# Altium footprint library Current Sense.PcbLib: 11 footprints
Each footprint in its own frame and in the unit in brackets; x right, y up, seen from the top. Pads: shape width x height; smd on the part's side, far side on the other; paste and mask are expansions set on the pad; w line width, h text height; cw(c..) or ccw(c..) is an arc to the next point about the centre after c.
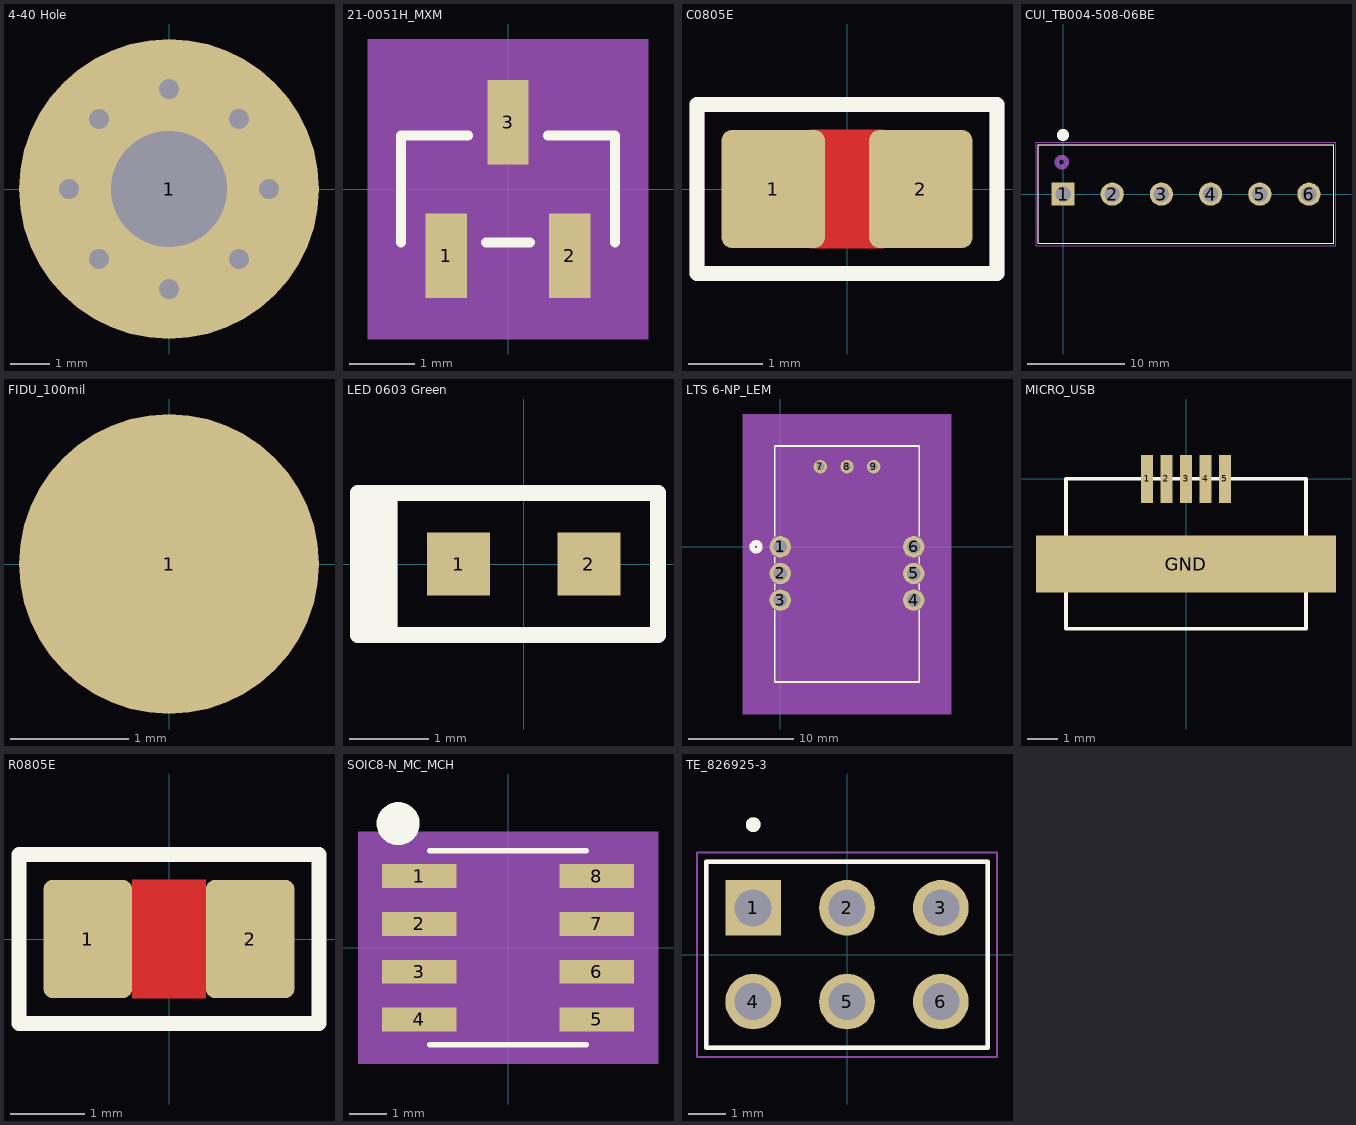
[diagram p0: the footprints below, top view; thin cyan lines are the x and y axes]

## 4-40 Hole [mil]
pads (1):
  round 300 hole 116: 1(0,0)
via 70,-70 diameter 50 hole 20
via -70,-70 diameter 50 hole 20
via 70,70 diameter 50 hole 20
via -70,70 diameter 50 hole 20
via -100,0 diameter 50 hole 20
via 0,-100 diameter 50 hole 20
via 100,0 diameter 50 hole 20
via 0,100 diameter 50 hole 20

## 21-0051H_MXM [mil]
pads (3):
  rect 25x51 smd paste+0 mask+0: 1(-37.4,-40.5) 2(37.4,-40.5) 3(0,40.5)
Top Overlay:
  lines w6: -65,-32.5 -65,32.5 -24.1,32.5 ; -13.3,-32.5 13.3,-32.5 ; 24.1,32.5 65,32.5 65,-32.5
Mechanical 5:
  region: -85,91 85,91 85,-91 -85,-91
Mechanical 13:
  circle w0: c-50,-17.5 r5
  lines w1: -60,-27.5 60,-27.5 60,27.5 -60,27.5 -60,-27.5 ; -47.4,-52 -47.4,-27.5 -27.4,-27.5 -27.4,-52 -47.4,-52 ; -10,27.5 10,27.5 10,52 -10,52 -10,27.5 ; 27.4,-52 27.4,-27.5 47.4,-27.5 47.4,-52 27.4,-52
  text "'.Designator'" at -100,106.66 h50
Mechanical 15:
  region: -70,-37.5 -70,37.5 -21,37.5 -21,76 21,76 21,37.5 70,37.5 70,-37.5 58.4,-37.5 58.4,-76 -58.4,-76 -58.4,-37.5
  region: 60,-27.5 -60,-27.5 -60,27.5 60,27.5
  lines w6: -70,-37.5 -70,37.5 -21,37.5 -21,76 21,76 21,37.5 70,37.5 70,-37.5 58.4,-37.5 58.4,-76 -58.4,-76 -58.4,-37.5 -70,-37.5
3D body "21-0051H_MXM.step": height 44.09, standoff 0, extent -60,-52.01 60,52.01

## C0805E [mm] "CHIP Capacitor, 2.0X1.3mm, 0805, EXPANDED PAD"
pads (2):
  rrect20% 1.4x1.6 smd mask+0.1: 1(-1,0) 2(1,0)
Top Layer:
  pour cut-out: -0.5,0.8 0.5,0.8 0.5,-0.8 -0.5,-0.8
Top Overlay:
  lines w0.2: -2.032,-1.143 2.032,-1.143 2.032,1.143 -2.032,1.143 -2.032,-1.143
Mechanical 1:
  lines w0.2: -2.032,-1.143 2.032,-1.143 2.032,1.143 -2.032,1.143 -2.032,-1.143
  text "'.Designator'" at -1.646,1.677 h1.27
3D body "User Library-CAPC2013X10.step": height 1, standoff 0, extent -1,-0.625 1,0.625

## CUI_TB004-508-06BE [mm]
pads (6):
  rect 2.4x2.4 / inner round 2.4 / far side rect 2.4x2.4 hole 1.6: 1(0,0)
  round 2.4 hole 1.6: 2(5.08,0) 3(10.16,0) 4(15.24,0) 5(20.32,0) 6(25.4,0)
Top Overlay:
  circle w0.635: c0,6.1 r0.305
  lines w0.127: -2.54,-5.1 27.94,-5.1 27.94,5.1 -2.54,5.1 -2.54,-5.1
Mechanical 13:
  circle w0.508: c-0.127,3.302 r0.508
  lines w0.127: -2.54,-5.1 27.94,-5.1 27.94,5.1 -2.54,5.1 -2.54,-5.1
  text "'.Designator'" at 3.937,-0.635 h1.52
Mechanical 15:
  lines w0.05: -2.79,-5.35 -2.79,5.35 28.19,5.35 28.19,-5.35 -2.79,-5.35

## FIDU_100mil [mil]
pads (1):
  round 100 smd paste-500 mask-500: 1(0,0)

## LED 0603 Green [mm]
pads (2):
  rect 0.8x0.8 smd: 1(-0.825,0) 2(0.825,0)
Top Overlay:
  rectangle: -2.1,-0.9 -1.6,0.9
  lines w0.2: -2.1,-0.9 1.7,-0.9 1.7,0.9 -2.1,0.9 -2.1,-0.9
Mechanical 29:
  rectangle: -2.1,-0.9 -1.6,0.9
  lines w0.2: -2.1,-0.9 -2.1,0.9 1.7,0.9 1.7,-0.9 -2.1,-0.9
  text "'.Designator'" at -1.4,-0.367 h0.7
3D body "LED 0603.STEP": height 1.1, standoff 0, extent -0.8,-0.4 0.8,0.4

## LTS 6-NP_LEM [mil]
pads (9):
  round 80 hole 52 mask+0: 1(0,0) 2(0,-100) 3(0,-200) 4(500,-200) 5(500,-100) 6(500,0)
  round 50 hole 30: 7(150,300) 8(250,300) 9(350,300)
Top Overlay:
  circle w20: c-91,0 r15
  lines w6: -21,-238.78 -21,-506.56 521,-506.56 521,-238.78 ; -21,-161.22 -21,-138.78 ; -21,-61.22 -21,-38.78 ; -21,38.78 -21,377.44 521,377.44 521,38.78 ; 521,-161.22 521,-138.78 ; 521,-61.22 521,-38.78
Bottom Overlay:
  circle w20: c-91,0 r15
Mechanical 5:
  region: -141,497.44 641,497.44 641,-626.56 -141,-626.56
Mechanical 13:
  circle w20: c0,75 r15
  lines w1: -16,-501.56 -16,372.44 516,372.44 516,-501.56 -16,-501.56
  text "'.Designator'" at 34,-600.01 h60
Mechanical 15:
  region: 541,382.44 -41,382.44 -41,-511.56 541,-511.56
  lines w6: -41,-511.56 541,-511.56 541,382.44 -41,382.44 -41,-511.56
3D body "LTS-6.STEP": height 945.38, standoff -137.29, extent -15.49,-502 516,372.02
3D body: height 10, standoff 0, extent 0,0 10,10

## MICRO_USB [mm]
pads (6):
  rect 0.4x1.6 smd: 1(-1.3,0) 2(-0.65,0) 3(0,0) 4(0.65,0) 5(1.3,0)
  rect 10x1.9 smd: GND(0,-2.84)
Top Overlay:
  lines w0.127: -4,-5 -4,0 4,0 4,-5 -4,-5
3D body "step_temp.STEP": height 0.31, standoff -5.26, extent -4.039,4.132 4.039,7.161

## R0805E [mm] "CHIP RESISTOR 1/8 WATT ,2.0X1.3mm, 0805, EXPANDED PAD"
pads (2):
  rrect20% 1.2x1.6 smd mask+0.1: 1(-1.1,0) 2(1.1,0)
Top Layer:
  pour cut-out: -0.5,0.8 0.5,0.8 0.5,-0.8 -0.5,-0.8
Top Overlay:
  lines w0.2: -2.032,-1.143 -2.032,1.143 2.032,1.143 2.032,-1.143 -2.032,-1.143
Mechanical 1:
  text "'.Designator'" at -2.286,1.778 h1.52
3D body "User Library-RES_2013-0805.step": height 0.76, standoff 0, extent -1.15,-0.675 1.15,0.675

## SOIC8-N_MC_MCH [mil]
pads (8):
  rect 78x25 smd paste+0 mask+0: 1(-93,75) 2(-93,25) 3(-93,-25) 4(-93,-75) 5(93,-75) 6(93,-25) 7(93,25) 8(93,75)
Top Overlay:
  lines w6: -82,-101.5 82,-101.5 ; -82,101.5 82,101.5
  lines w25: -105.36,132.68 ccw(c-115,130) -105,130
Mechanical 5:
  region: 157,-121.5 -157,-121.5 -157,121.5 157,121.5
Mechanical 13:
  lines w0: -12,96.5 ccw(c0,96.5) 12,96.5
  lines w1: -118,-85 -77,-85 -77,-65 -118,-65 -118,-85 ; -118,-35 -77,-35 -77,-15 -118,-15 -118,-35 ; -118,15 -77,15 -77,35 -118,35 -118,15 ; -118,65 -77,65 -77,85 -118,85 -118,65 ; -77,-96.5 -77,96.5 77,96.5 77,-96.5 -77,-96.5 ; 77,-85 118,-85 118,-65 77,-65 77,-85 ; 77,-35 118,-35 118,-15 77,-15 77,-35 ; 77,15 118,15 118,35 77,35 77,15 ; 77,65 118,65 118,85 77,85 77,65
  lines w20: -37.29,72.14 ccw(c-45,70) -37,70
  text "'.Designator'" at -150,-200.01 h60
Mechanical 15:
  region: -87,-96 -142,-96 -142,96 -87,96 -87,106.5 87,106.5 87,96 142,96 142,-96 87,-96 87,-106.5 -87,-106.5
  lines w6: -142,-96 -87,-96 -87,-106.5 87,-106.5 87,-96 142,-96 142,96 87,96 87,106.5 -87,106.5 -87,96 -142,96 -142,-96
3D body "SOIC8-N_MC_MCH.step": height 69.09, standoff 0, extent -117.99,-96.5 117.99,96.5

## TE_826925-3 [mm]
pads (6):
  rect 1.508x1.508 hole 1: 1(-2.54,1.27)
  round 1.508 hole 1: 2(0,1.27) 3(2.54,1.27) 4(-2.54,-1.27) 5(0,-1.27) 6(2.54,-1.27)
Top Overlay:
  circle w0.2: c-2.54,3.52 r0.1
  lines w0.127: -3.81,-2.52 -3.81,2.52 3.81,2.52 3.81,-2.52 -3.81,-2.52
Mechanical 13:
  circle w0.2: c-2.54,3.52 r0.1
  lines w0.127: -3.81,-2.52 -3.81,2.52 3.81,2.52 3.81,-2.52 -3.81,-2.52
Mechanical 15:
  lines w0.05: -4.06,-2.77 -4.06,2.77 4.06,2.77 4.06,-2.77 -4.06,-2.77
3D body "826925-3--3DModel-STEP-1.STEP": height 9.51, standoff -3.19, extent -3.81,-2.5 3.81,2.5